# Altium schematic symbol library CON_TAG_CONNECT_KINETIS.SchLib: 1 symbol
Pins are listed as number, name and electrical type; pins without a type are passive.

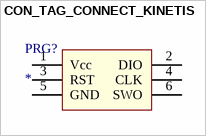
[diagram p0: symbol CON_TAG_CONNECT_KINETIS]

## CON_TAG_CONNECT_KINETIS
designator PRG?
pins: 1 Vcc, 2 DIO, 3 RST, 4 CLK, 5 GND, 6 SWO